# EAGLE library part ZOE-M8Q-0 (library SamacSys_Parts)
RF RECEIVER GNSS/GPS MODULE Source: Datasheet <https://www.u-blox.com/sites/default/files/ZOE-M8_DataSheet_(UBX-16008094)-3.pdf>
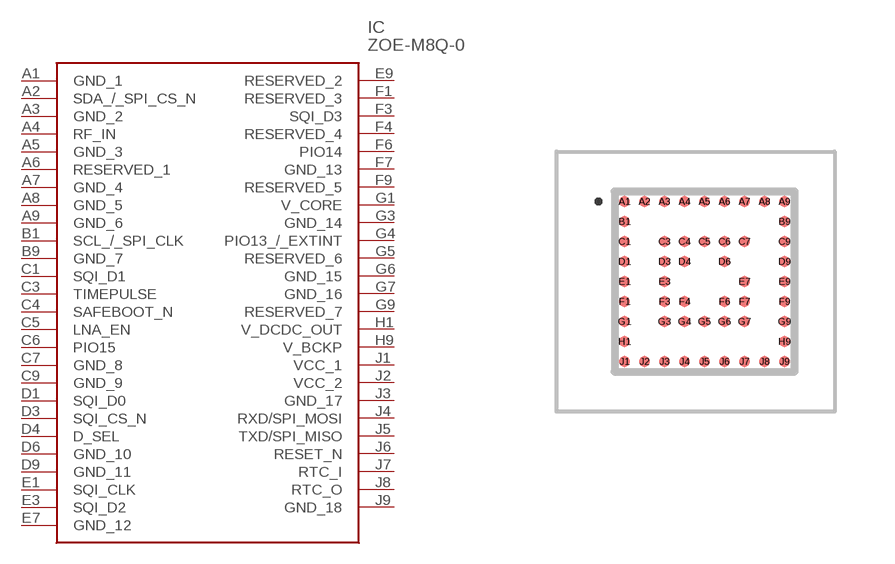
[diagram p9: symbol with the pads of ZOEM8Q0; footprint ZOEM8Q0]

Designator prefix IC

## ZOE-M8Q-0 (DESCRIPTION: RF RECEIVER GNSS/GPS MODULE; HEIGHT: 1.165mm; MANUFACTURER_NAME: U-Blox; MANUFACTURER_PART_NUMBER: ZOE-M8Q-0; MOUSER_PART_NUMBER: 377-ZOE-M8Q-0; MOUSER_PRICE-STOCK: https://www.mouser.co.uk/ProductDetail/u-blox/ZOE-M8Q-0?qs=zW32dvEIR3tuFb40SAB5GQ%3D%3D)  [ZOEM8Q0]
A1  GND_1
A2  SDA_/_SPI_CS_N
A3  GND_2
A4  RF_IN
A5  GND_3
A6  RESERVED_1
A7  GND_4
A8  GND_5
A9  GND_6
B1  SCL_/_SPI_CLK
B9  GND_7
C1  SQI_D1
C3  TIMEPULSE
C4  SAFEBOOT_N
C5  LNA_EN
C6  PIO15
C7  GND_8
C9  GND_9
D1  SQI_D0
D3  SQI_CS_N
D4  D_SEL
D6  GND_10
D9  GND_11
E1  SQI_CLK
E3  SQI_D2
E7  GND_12
E9  RESERVED_2
F1  RESERVED_3
F3  SQI_D3
F4  RESERVED_4
F6  PIO14
F7  GND_13
F9  RESERVED_5
G1  V_CORE
G3  GND_14
G4  PIO13_/_EXTINT
G5  RESERVED_6
G6  GND_15
G7  GND_16
G9  RESERVED_7
H1  V_DCDC_OUT
H9  V_BCKP
J1  VCC_1
J2  VCC_2
J3  GND_17
J4  RXD/SPI_MOSI
J5  TXD/SPI_MISO
J6  RESET_N
J7  RTC_I
J8  RTC_O
J9  GND_18

## Footprint ZOEM8Q0 (pad centres in mm)
ZOE-M8Q-0-3
smd 0.27 x 0.27: A1 -2,2; A2 -1.5,2; A3 -1,2; A4 -0.5,2; A5 0,2; A6 0.5,2; A7 1,2; A8 1.5,2; A9 2,2; B1 -2,1.5; B9 2,1.5; C1 -2,1; C3 -1,1; C4 -0.5,1; C5 0,1; C6 0.5,1; C7 1,1; C9 2,1; D1 -2,0.5; D3 -1,0.5; D4 -0.5,0.5; D6 0.5,0.5; D9 2,0.5; E1 -2,0; E3 -1,0; E7 1,0; E9 2,0; F1 -2,-0.5; F3 -1,-0.5; F4 -0.5,-0.5; F6 0.5,-0.5; F7 1,-0.5; F9 2,-0.5; G1 -2,-1; G3 -1,-1; G4 -0.5,-1; G5 0,-1; G6 0.5,-1; G7 1,-1; G9 2,-1; H1 -2,-1.5; H9 2,-1.5; J1 -2,-2; J2 -1.5,-2; J3 -1,-2; J4 -0.5,-2; J5 0,-2; J6 0.5,-2; J7 1,-2; J8 1.5,-2; J9 2,-2